# Altium schematic symbol library HSMF-C11B.SchLib: 1 symbol
Pins are listed as number, name and electrical type; pins without a type are passive.

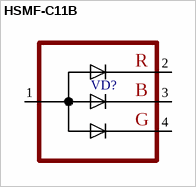
[diagram p0: symbol HSMF-C11B]

## HSMF-C11B
designator VD?
pins: 1, 2, 3, 4
text: R; B; G